# Altium integrated library Linear Technology Power Management Battery Management.IntLib: 626 symbols (part 35 of 56)
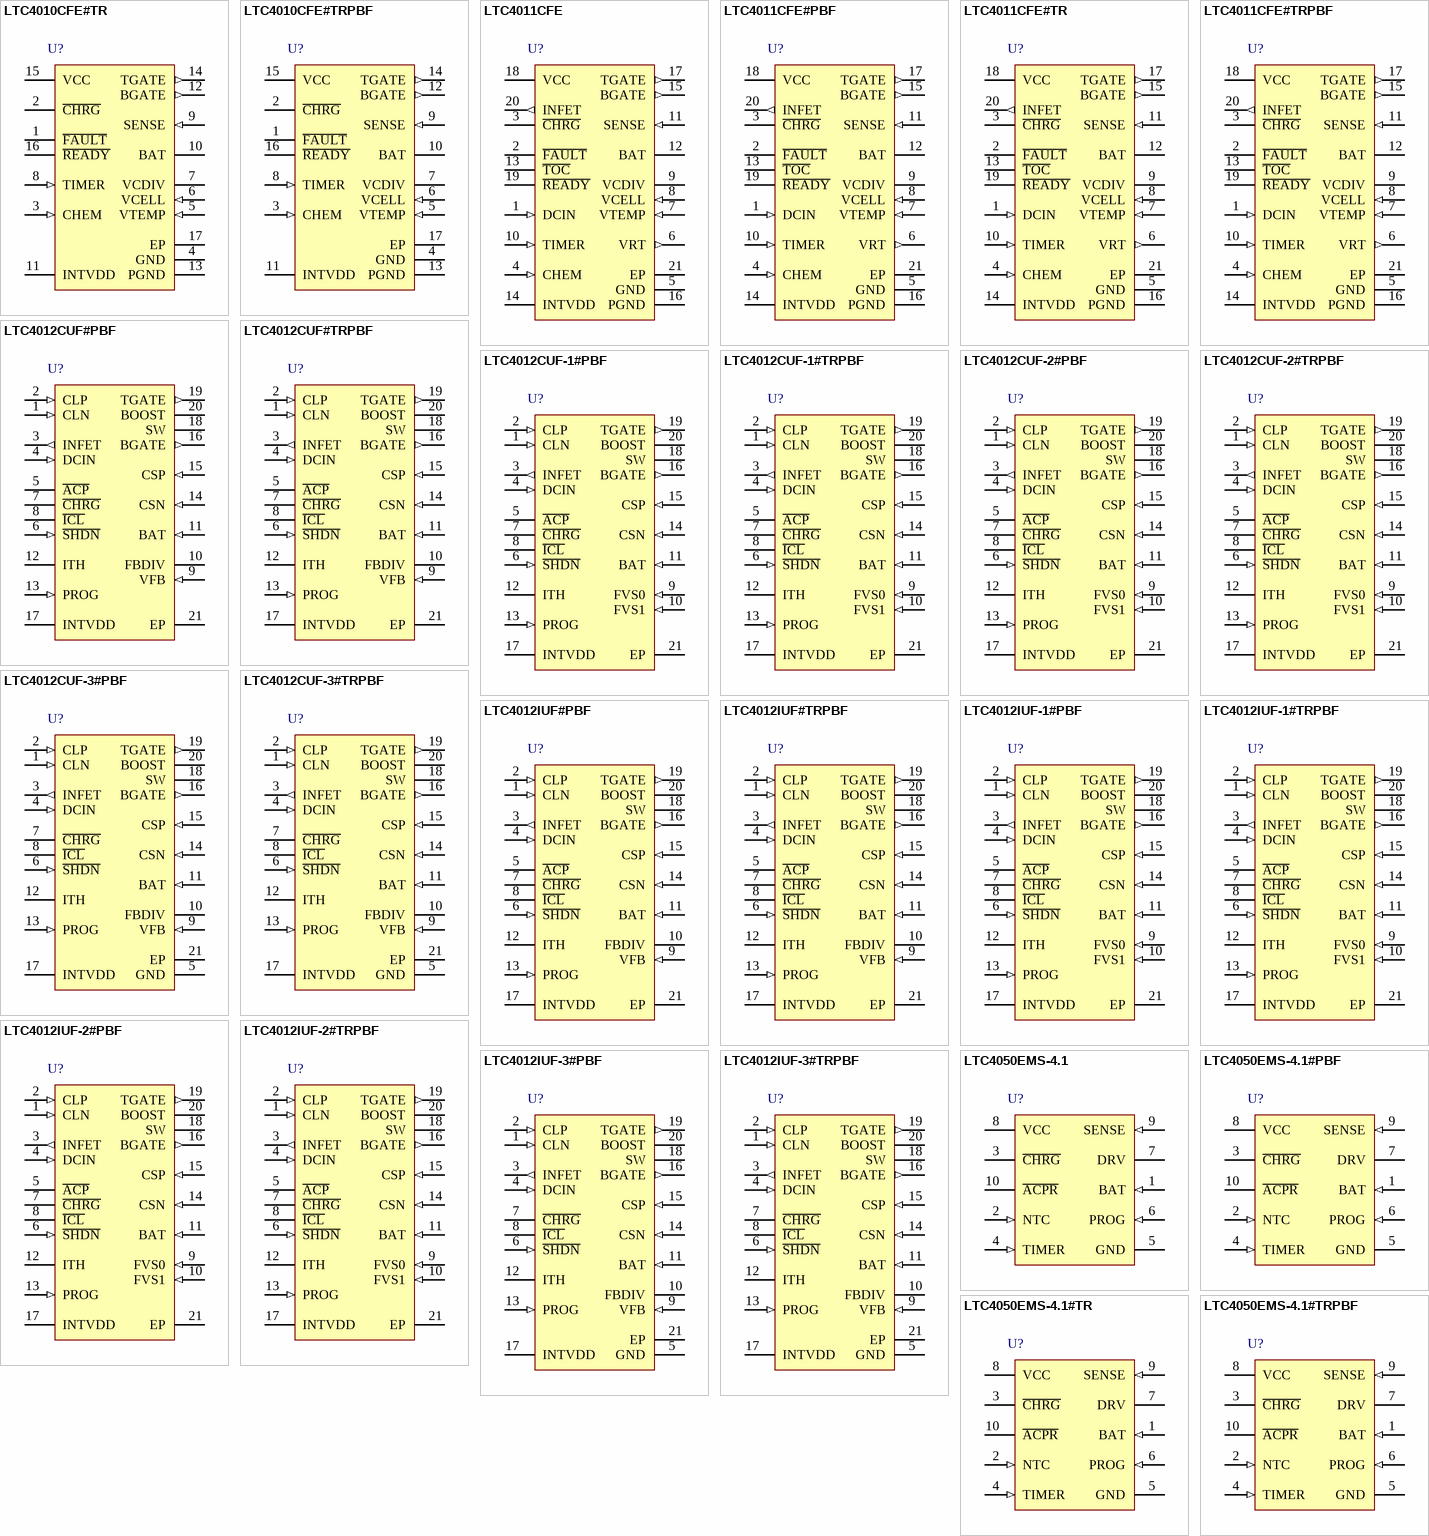
[diagram p56: symbols LTC4010CFE#TR to LTC4050EMS-4.1#TRPBF]

## LTC4010CFE#TRPBF
designator U?
High Efficiency Standalone Nickel Battery Charger, 4.5 to 34 V Vin, 16-pin SOP (FE-16-EPV-BC), 0 to 85 degC, Pb-Free, Tape and Reel; Manufacturer: Linear Technology; PartNumber: LTC4010CFE#TRPBF; Battery Chemistry: NiCd, NiMH; Float Voltage: Adj; Max Charge Current(A): 4; Number of Cells: 1 to 16; Type of Charger: Switching; Vin Max(V): 34; Vin Min(V): 4.5; DatasheetVersion: Rev. B; PackageVersion: Rev. J, 11/2012; PackageReference: FE-16; PackageDescription: 16-Pin Plastic TSSOP, Body 5 x 4.4 mm, Pitch 0.65 mm; Supplier 1: Digi-Key; Supplier Part Number 1: LTC4010CFE#TRPBF-ND; Supplier 2: Newark; Supplier Part Number 2: 58M0828; Packing: Tape and Reel; RoHS: TRUE; Mounting Technology: Surface Mount; ComponentLink1Description: Manufacturer URL; ComponentLink1URL: http://www.linear.com/; ComponentLink2Description: Datasheet; ComponentLink2URL: http://cds.linear.com/docs/en/datasheet/4010fb.pdf; ComponentLink3Description: Package Specification; ComponentLink3URL: http://cds.linear.com/docs/en/packaging/05081663__J_FE16(BC).pdf
footprint LT-FE-16-EPV-BC_N (SOP, 16-Leads, Body 5.1x4.5mm, Pitch 0.65mm, Thermal Pad 3.58x2.94mm, IPC Medium Density)
footprint LT-FE-16-EPV-BC_L (SOP, 16-Leads, Body 5.1x4.5mm, Pitch 0.65mm, Thermal Pad 3.58x2.94mm, IPC High Density)
footprint LT-FE-16-EPV-BC_M (SOP, 16-Leads, Body 5.1x4.5mm, Pitch 0.65mm, Thermal Pad 3.58x2.94mm, IPC Low Density)
pins: 1 ~{FAULT} (oc) "Active-Low Fault Indicator Output. The LTC4010 indicates various battery and internal fault conditions by connecting this pin to GND. Refer to the Operation and Applications Information sections for further details. This (See Datasheet)", 2 ~{CHRG} (oc) "Active-Low Charge Indicator Output. The LTC4010 indicates it is providing charge to the battery by connecting this pin to GND. Refer to the Operation and Applications Information sections for further details. This output is (See Datasheet)", 3 CHEM (in) "Battery Chemistry Selection Input. This pin should be wired to GND to select NiMH fast charge termination parameters. If a voltage greater than 2.85V is applied to this pin, or it is left floating, NiCd parameters are used. (See Datasheet)", 4 GND (power) "Ground. This pin provides a single-point ground for internal references and other critical analog circuits.", 5 VTEMP (in) "Battery Temperature Input. An external 10k NTC thermistor may be connected between VTEMP and GND to provide temperature-based charge qualification and additional fast charge termination control. Charging may also be paused (See Datasheet)", 6 VCELL (in) "Average Single-Cell Voltage Input. An external voltage divider between BAT and VCDIV is attached to this pin to monitor the average single-cell voltage of the battery pack. The LTC4010 uses this information to protect (See Datasheet)", 7 VCDIV (oc) "Average Cell Voltage Resistor Divider Termination. The LTC4010 connects this pin to GND provided the charger is not in shutdown. VCDIV is an open-drain output to GND with an operating voltage range of GND to BAT.", 8 TIMER (in) "Charge Timer Input. A resistor connected between TIMER and GND programs charge cycle timing limits. Refer to the Applications Information section for complete details. Operating voltage range is GND to 1V.", 9 SENSE (in) "Charge Current Sense Input. An external resistor between this input and BAT is used to program charge current. Refer to the Applications Information section for complete details on programming charge current. Operating (See Datasheet)", 10 BAT (power) "Battery Pack Connection. The LTC4010 uses the voltage on this pin to control current sourced from VCC to the battery during charging. Allowable operating voltage range is GND to VCC.", 11 INTVDD (power) "Internal 5V Regulator Output. This pin provides a means of bypassing the internal 5V regulator used to power the BGATE output driver. Typically, power should not be drawn from this pin by the application circuit. Refer to (See Datasheet)", 12 BGATE (out) "External Synchronous N-channel MOSFET Gate Control Output. This output provides gate drive to an optional external NMOS power transistor switch used for synchronous rectification to increase efficiency in the step-down DC/DC (See Datasheet)", 13 PGND (power) "Power Ground. This pin provides a return for switching currents generated by internal LTC4010 circuits. Externally, PGND and GND should be wired together using a very low impedance connection. Refer to PCB Layout (See Datasheet)", 14 TGATE (out) "External P-channel MOSFET Gate Control Output. This output provides gate drive to an external PMOS power transistor switch used in the DC/DC converter. Operating voltage range varies as a function of VCC. Refer to the (See Datasheet)", 15 VCC (power) "Power Input. External diodes normally connect either the DC input power supply or the battery to this pin. Refer to the Applications Information section for further details. Suggested applied voltage range is GND to 34V.", 16 ~{READY} (oc) "Active-Low Ready-to-Charge Output. The LTC4010 connects this pin to GND if proper operating voltages for charging are present. Refer to the Operation section for complete details on charge qualification. This output is (See Datasheet)", 17 EP (power) "This pin provides enhanced thermal properties for the TSSOP. It must be soldered to the PCB copper ground to obtain optimum thermal performance."

## LTC4011CFE
designator U?
High Efficiency Standalone Nickel Battery Charger, 4.5 to 34 V Vin, 20-pin SOP (FE-20-EPV-CB), 0 to 85 degC; Manufacturer: Linear Technology; PartNumber: LTC4011CFE; Battery Chemistry: NiCd, NiMH; Float Voltage: Adj; Max Charge Current(A): 4; Number of Cells: 1 to 16; Type of Charger: Switching; Vin Max(V): 34; Vin Min(V): 4.5; DatasheetVersion: Rev. B; PackageVersion: Rev. I, 05/2011; PackageReference: FE-20; PackageDescription: 20-Pin Plastic TSSOP, Body 6.5 x 4.4 mm, Pitch 0.65 mm; Supplier 1: Digi-Key; Supplier Part Number 1: LTC4011CFE-ND; RoHS: FALSE; Mounting Technology: Surface Mount; ComponentLink1Description: Manufacturer URL; ComponentLink1URL: http://www.linear.com/; ComponentLink2Description: Datasheet; ComponentLink2URL: http://cds.linear.com/docs/en/datasheet/4011fb.pdf; ComponentLink3Description: Package Specification; ComponentLink3URL: http://cds.linear.com/docs/en/packaging/05081663__J_FE20(CB).pdf
footprint LT-FE-20-EPV-CB_N (SOP, 20-Leads, Body 6.6x4.5mm, Pitch 0.65mm, Thermal Pad 3.86x2.74mm, IPC Medium Density)
footprint LT-FE-20-EPV-CB_L (SOP, 20-Leads, Body 6.6x4.5mm, Pitch 0.65mm, Thermal Pad 3.86x2.74mm, IPC High Density)
footprint LT-FE-20-EPV-CB_M (SOP, 20-Leads, Body 6.6x4.5mm, Pitch 0.65mm, Thermal Pad 3.86x2.74mm, IPC Low Density)
pins: 1 DCIN (in) "DC Power Sense Input. The LTC4011 senses voltage on this pin to determine when an external DC power source is present. This input should be isolated from VCC by a blocking diode or PowerPath FET. Refer to the Applications (See Datasheet)", 2 ~{FAULT} (oc) "Active-Low Fault Indicator Output. The LTC4011 indicates various battery and internal fault conditions by connecting this pin to GND. Refer to the Operation and Applications Information sections for further details. This (See Datasheet)", 3 ~{CHRG} (oc) "Active-Low Charge Indicator Output. The LTC4011 indicates it is providing charge to the battery by connecting this pin to GND. Refer to the Operation and Applications Information sections for further details. This output is (See Datasheet)", 4 CHEM (in) "Battery Chemistry Selection Input. This pin should be wired to GND to select NiMH fast charge termination parameters. If a voltage greater than 2.85V is applied to this pin, or it is left floating, NiCd parameters are used. (See Datasheet)", 5 GND (power) "Ground. This pin provides a single-point ground for internal references and other critical analog circuits.", 6 VRT (out) "Thermistor Network Termination Output. The LTC4011 provides 3.3V on this pin to drive an external thermistor network connected between VRT, VTEMP and GND. Additional power should not be drawn from this pin by the host (See Datasheet)", 7 VTEMP (in) "Battery Temperature Input. An external thermistor network may be connected to VTEMP to provide temperature-based charge qualification and additional fast charge termination control. Charging may also be paused by connecting (See Datasheet)", 8 VCELL (in) "Average Single-Cell Voltage Input. An external voltage divider between BAT and VCDIV is attached to this pin to monitor the average single-cell voltage of the battery pack. The LTC4011 uses this information to protect (See Datasheet)", 9 VCDIV (oc) "Average Cell Voltage Resistor Divider Termination. The LTC4011 connects this pin to GND provided the charger is not in shutdown. VCDIV is an open-drain output to GND with an operating voltage range of GND to BAT.", 10 TIMER (in) "Charge Timer Input. A resistor connected between TIMER and GND programs charge cycle timing limits. Refer to the Applications Information section for complete details. Operating voltage range is GND to 1V.", 11 SENSE (in) "Charge Current Sense Input. An external resistor between this input and BAT is used to program charge current. Refer to the Applications Information section for complete details on programming charge current. Operating (See Datasheet)", 12 BAT (power) "Battery Pack Connection. The LTC4011 uses the voltage on this pin to control current sourced from VCC to the battery during charging. Allowable operating voltage range is GND to VCC.", 13 ~{TOC} (oc) "Active-Low Top-Off Charge Indicator Output. The LTC4011 indicates the top-off charge state for NiMH batteries by connecting this pin to GND. Refer to the Operation and Applications Information sections for further details. (See Datasheet)", 14 INTVDD (power) "Internal 5V Regulator Output. This pin provides a means of bypassing the internal 5V regulator used to power the BGATE output driver. Typically, power should not be drawn from this pin by the application circuit. Refer to (See Datasheet)", 15 BGATE (out) "External Synchronous N-channel MOSFET Gate Control Output. This output provides gate drive to an optional external NMOS power transistor switch used for synchronous rectification to increase efficiency in the step-down DC/DC (See Datasheet)", 16 PGND (power) "Power Ground. This pin provides a return for switching currents generated by internal LTC4011 circuits. Externally, PGND and GND should be wired together using a very low impedance connection. Refer to PCB Layout (See Datasheet)", 17 TGATE (out) "External P-channel MOSFET Gate Control Output. This output provides gate drive to an external PMOS power transistor switch used in the DC/DC converter. Operating voltage range varies as a function of VCC. Refer to the (See Datasheet)", 18 VCC (power) "Power Input. External PowerPath control circuits normally connect either the DC input power supply or the battery to this pin. Refer to the Applications Information section for further details. Suggested applied voltage (See Datasheet)", 19 ~{READY} (oc) "Active-Low Ready-to-Charge Output. The LTC4011 connects this pin to GND if proper operating voltages for charging are present. Refer to the Operation section for complete details on charge qualification. This output is (See Datasheet)", 20 INFET (out) "PowerPath Control Output. For very low dropout applications, this output may be used to drive the gate of an input PMOS pass transistor connected between the DC input (DCIN) and the raw system supply rail (VCC). INFET is (See Datasheet)", 21 EP (power) "This pin provides enhanced thermal properties for the TSSOP. It must be soldered to the PCB copper ground to obtain optimum thermal performance."

## LTC4011CFE#PBF
designator U?
High Efficiency Standalone Nickel Battery Charger, 4.5 to 34 V Vin, 20-pin SOP (FE-20-EPV-CB), 0 to 85 degC, Pb-Free; Manufacturer: Linear Technology; PartNumber: LTC4011CFE#PBF; Battery Chemistry: NiCd, NiMH; Float Voltage: Adj; Max Charge Current(A): 4; Number of Cells: 1 to 16; Type of Charger: Switching; Vin Max(V): 34; Vin Min(V): 4.5; DatasheetVersion: Rev. B; PackageVersion: Rev. I, 05/2011; PackageReference: FE-20; PackageDescription: 20-Pin Plastic TSSOP, Body 6.5 x 4.4 mm, Pitch 0.65 mm; Supplier 1: Digi-Key; Supplier Part Number 1: LTC4011CFE#PBF-ND; Supplier 2: Farnell; Supplier Part Number 2: 1273984; Supplier 3: Newark; Supplier Part Number 3: 58M0830; RoHS: TRUE; Mounting Technology: Surface Mount; ComponentLink1Description: Manufacturer URL; ComponentLink1URL: http://www.linear.com/; ComponentLink2Description: Datasheet; ComponentLink2URL: http://cds.linear.com/docs/en/datasheet/4011fb.pdf; ComponentLink3Description: Package Specification; ComponentLink3URL: http://cds.linear.com/docs/en/packaging/05081663__J_FE20(CB).pdf
footprint LT-FE-20-EPV-CB_N (SOP, 20-Leads, Body 6.6x4.5mm, Pitch 0.65mm, Thermal Pad 3.86x2.74mm, IPC Medium Density)
footprint LT-FE-20-EPV-CB_L (SOP, 20-Leads, Body 6.6x4.5mm, Pitch 0.65mm, Thermal Pad 3.86x2.74mm, IPC High Density)
footprint LT-FE-20-EPV-CB_M (SOP, 20-Leads, Body 6.6x4.5mm, Pitch 0.65mm, Thermal Pad 3.86x2.74mm, IPC Low Density)
pins: 1 DCIN (in) "DC Power Sense Input. The LTC4011 senses voltage on this pin to determine when an external DC power source is present. This input should be isolated from VCC by a blocking diode or PowerPath FET. Refer to the Applications (See Datasheet)", 2 ~{FAULT} (oc) "Active-Low Fault Indicator Output. The LTC4011 indicates various battery and internal fault conditions by connecting this pin to GND. Refer to the Operation and Applications Information sections for further details. This (See Datasheet)", 3 ~{CHRG} (oc) "Active-Low Charge Indicator Output. The LTC4011 indicates it is providing charge to the battery by connecting this pin to GND. Refer to the Operation and Applications Information sections for further details. This output is (See Datasheet)", 4 CHEM (in) "Battery Chemistry Selection Input. This pin should be wired to GND to select NiMH fast charge termination parameters. If a voltage greater than 2.85V is applied to this pin, or it is left floating, NiCd parameters are used. (See Datasheet)", 5 GND (power) "Ground. This pin provides a single-point ground for internal references and other critical analog circuits.", 6 VRT (out) "Thermistor Network Termination Output. The LTC4011 provides 3.3V on this pin to drive an external thermistor network connected between VRT, VTEMP and GND. Additional power should not be drawn from this pin by the host (See Datasheet)", 7 VTEMP (in) "Battery Temperature Input. An external thermistor network may be connected to VTEMP to provide temperature-based charge qualification and additional fast charge termination control. Charging may also be paused by connecting (See Datasheet)", 8 VCELL (in) "Average Single-Cell Voltage Input. An external voltage divider between BAT and VCDIV is attached to this pin to monitor the average single-cell voltage of the battery pack. The LTC4011 uses this information to protect (See Datasheet)", 9 VCDIV (oc) "Average Cell Voltage Resistor Divider Termination. The LTC4011 connects this pin to GND provided the charger is not in shutdown. VCDIV is an open-drain output to GND with an operating voltage range of GND to BAT.", 10 TIMER (in) "Charge Timer Input. A resistor connected between TIMER and GND programs charge cycle timing limits. Refer to the Applications Information section for complete details. Operating voltage range is GND to 1V.", 11 SENSE (in) "Charge Current Sense Input. An external resistor between this input and BAT is used to program charge current. Refer to the Applications Information section for complete details on programming charge current. Operating (See Datasheet)", 12 BAT (power) "Battery Pack Connection. The LTC4011 uses the voltage on this pin to control current sourced from VCC to the battery during charging. Allowable operating voltage range is GND to VCC.", 13 ~{TOC} (oc) "Active-Low Top-Off Charge Indicator Output. The LTC4011 indicates the top-off charge state for NiMH batteries by connecting this pin to GND. Refer to the Operation and Applications Information sections for further details. (See Datasheet)", 14 INTVDD (power) "Internal 5V Regulator Output. This pin provides a means of bypassing the internal 5V regulator used to power the BGATE output driver. Typically, power should not be drawn from this pin by the application circuit. Refer to (See Datasheet)", 15 BGATE (out) "External Synchronous N-channel MOSFET Gate Control Output. This output provides gate drive to an optional external NMOS power transistor switch used for synchronous rectification to increase efficiency in the step-down DC/DC (See Datasheet)", 16 PGND (power) "Power Ground. This pin provides a return for switching currents generated by internal LTC4011 circuits. Externally, PGND and GND should be wired together using a very low impedance connection. Refer to PCB Layout (See Datasheet)", 17 TGATE (out) "External P-channel MOSFET Gate Control Output. This output provides gate drive to an external PMOS power transistor switch used in the DC/DC converter. Operating voltage range varies as a function of VCC. Refer to the (See Datasheet)", 18 VCC (power) "Power Input. External PowerPath control circuits normally connect either the DC input power supply or the battery to this pin. Refer to the Applications Information section for further details. Suggested applied voltage (See Datasheet)", 19 ~{READY} (oc) "Active-Low Ready-to-Charge Output. The LTC4011 connects this pin to GND if proper operating voltages for charging are present. Refer to the Operation section for complete details on charge qualification. This output is (See Datasheet)", 20 INFET (out) "PowerPath Control Output. For very low dropout applications, this output may be used to drive the gate of an input PMOS pass transistor connected between the DC input (DCIN) and the raw system supply rail (VCC). INFET is (See Datasheet)", 21 EP (power) "This pin provides enhanced thermal properties for the TSSOP. It must be soldered to the PCB copper ground to obtain optimum thermal performance."

## LTC4011CFE#TR
designator U?
High Efficiency Standalone Nickel Battery Charger, 4.5 to 34 V Vin, 20-pin SOP (FE-20-EPV-CB), 0 to 85 degC, Tape and Reel; Manufacturer: Linear Technology; PartNumber: LTC4011CFE#TR; Battery Chemistry: NiCd, NiMH; Float Voltage: Adj; Max Charge Current(A): 4; Number of Cells: 1 to 16; Type of Charger: Switching; Vin Max(V): 34; Vin Min(V): 4.5; DatasheetVersion: Rev. B; PackageVersion: Rev. I, 05/2011; PackageReference: FE-20; PackageDescription: 20-Pin Plastic TSSOP, Body 6.5 x 4.4 mm, Pitch 0.65 mm; Supplier 1: Digi-Key; Supplier Part Number 1: LTC4011CFE#TR-ND; Packing: Tape and Reel; RoHS: FALSE; Mounting Technology: Surface Mount; ComponentLink1Description: Manufacturer URL; ComponentLink1URL: http://www.linear.com/; ComponentLink2Description: Datasheet; ComponentLink2URL: http://cds.linear.com/docs/en/datasheet/4011fb.pdf; ComponentLink3Description: Package Specification; ComponentLink3URL: http://cds.linear.com/docs/en/packaging/05081663__J_FE20(CB).pdf
footprint LT-FE-20-EPV-CB_N (SOP, 20-Leads, Body 6.6x4.5mm, Pitch 0.65mm, Thermal Pad 3.86x2.74mm, IPC Medium Density)
footprint LT-FE-20-EPV-CB_L (SOP, 20-Leads, Body 6.6x4.5mm, Pitch 0.65mm, Thermal Pad 3.86x2.74mm, IPC High Density)
footprint LT-FE-20-EPV-CB_M (SOP, 20-Leads, Body 6.6x4.5mm, Pitch 0.65mm, Thermal Pad 3.86x2.74mm, IPC Low Density)
pins: 1 DCIN (in) "DC Power Sense Input. The LTC4011 senses voltage on this pin to determine when an external DC power source is present. This input should be isolated from VCC by a blocking diode or PowerPath FET. Refer to the Applications (See Datasheet)", 2 ~{FAULT} (oc) "Active-Low Fault Indicator Output. The LTC4011 indicates various battery and internal fault conditions by connecting this pin to GND. Refer to the Operation and Applications Information sections for further details. This (See Datasheet)", 3 ~{CHRG} (oc) "Active-Low Charge Indicator Output. The LTC4011 indicates it is providing charge to the battery by connecting this pin to GND. Refer to the Operation and Applications Information sections for further details. This output is (See Datasheet)", 4 CHEM (in) "Battery Chemistry Selection Input. This pin should be wired to GND to select NiMH fast charge termination parameters. If a voltage greater than 2.85V is applied to this pin, or it is left floating, NiCd parameters are used. (See Datasheet)", 5 GND (power) "Ground. This pin provides a single-point ground for internal references and other critical analog circuits.", 6 VRT (out) "Thermistor Network Termination Output. The LTC4011 provides 3.3V on this pin to drive an external thermistor network connected between VRT, VTEMP and GND. Additional power should not be drawn from this pin by the host (See Datasheet)", 7 VTEMP (in) "Battery Temperature Input. An external thermistor network may be connected to VTEMP to provide temperature-based charge qualification and additional fast charge termination control. Charging may also be paused by connecting (See Datasheet)", 8 VCELL (in) "Average Single-Cell Voltage Input. An external voltage divider between BAT and VCDIV is attached to this pin to monitor the average single-cell voltage of the battery pack. The LTC4011 uses this information to protect (See Datasheet)", 9 VCDIV (oc) "Average Cell Voltage Resistor Divider Termination. The LTC4011 connects this pin to GND provided the charger is not in shutdown. VCDIV is an open-drain output to GND with an operating voltage range of GND to BAT.", 10 TIMER (in) "Charge Timer Input. A resistor connected between TIMER and GND programs charge cycle timing limits. Refer to the Applications Information section for complete details. Operating voltage range is GND to 1V.", 11 SENSE (in) "Charge Current Sense Input. An external resistor between this input and BAT is used to program charge current. Refer to the Applications Information section for complete details on programming charge current. Operating (See Datasheet)", 12 BAT (power) "Battery Pack Connection. The LTC4011 uses the voltage on this pin to control current sourced from VCC to the battery during charging. Allowable operating voltage range is GND to VCC.", 13 ~{TOC} (oc) "Active-Low Top-Off Charge Indicator Output. The LTC4011 indicates the top-off charge state for NiMH batteries by connecting this pin to GND. Refer to the Operation and Applications Information sections for further details. (See Datasheet)", 14 INTVDD (power) "Internal 5V Regulator Output. This pin provides a means of bypassing the internal 5V regulator used to power the BGATE output driver. Typically, power should not be drawn from this pin by the application circuit. Refer to (See Datasheet)", 15 BGATE (out) "External Synchronous N-channel MOSFET Gate Control Output. This output provides gate drive to an optional external NMOS power transistor switch used for synchronous rectification to increase efficiency in the step-down DC/DC (See Datasheet)", 16 PGND (power) "Power Ground. This pin provides a return for switching currents generated by internal LTC4011 circuits. Externally, PGND and GND should be wired together using a very low impedance connection. Refer to PCB Layout (See Datasheet)", 17 TGATE (out) "External P-channel MOSFET Gate Control Output. This output provides gate drive to an external PMOS power transistor switch used in the DC/DC converter. Operating voltage range varies as a function of VCC. Refer to the (See Datasheet)", 18 VCC (power) "Power Input. External PowerPath control circuits normally connect either the DC input power supply or the battery to this pin. Refer to the Applications Information section for further details. Suggested applied voltage (See Datasheet)", 19 ~{READY} (oc) "Active-Low Ready-to-Charge Output. The LTC4011 connects this pin to GND if proper operating voltages for charging are present. Refer to the Operation section for complete details on charge qualification. This output is (See Datasheet)", 20 INFET (out) "PowerPath Control Output. For very low dropout applications, this output may be used to drive the gate of an input PMOS pass transistor connected between the DC input (DCIN) and the raw system supply rail (VCC). INFET is (See Datasheet)", 21 EP (power) "This pin provides enhanced thermal properties for the TSSOP. It must be soldered to the PCB copper ground to obtain optimum thermal performance."

## LTC4011CFE#TRPBF
designator U?
High Efficiency Standalone Nickel Battery Charger, 4.5 to 34 V Vin, 20-pin SOP (FE-20-EPV-CB), 0 to 85 degC, Pb-Free, Tape and Reel; Manufacturer: Linear Technology; PartNumber: LTC4011CFE#TRPBF; Battery Chemistry: NiCd, NiMH; Float Voltage: Adj; Max Charge Current(A): 4; Number of Cells: 1 to 16; Type of Charger: Switching; Vin Max(V): 34; Vin Min(V): 4.5; DatasheetVersion: Rev. B; PackageVersion: Rev. I, 05/2011; PackageReference: FE-20; PackageDescription: 20-Pin Plastic TSSOP, Body 6.5 x 4.4 mm, Pitch 0.65 mm; Supplier 1: Digi-Key; Supplier Part Number 1: LTC4011CFE#TRPBFTR-ND; Supplier 2: Digi-Key; Supplier Part Number 2: LTC4011CFE#TRPBFCT-ND; Supplier 3: Digi-Key; Supplier Part Number 3: LTC4011CFE#TRPBFDKR-ND; Supplier 4: Newark; Supplier Part Number 4: 58M0832; Packing: Tape and Reel; RoHS: TRUE; Mounting Technology: Surface Mount; ComponentLink1Description: Manufacturer URL; ComponentLink1URL: http://www.linear.com/; ComponentLink2Description: Datasheet; ComponentLink2URL: http://cds.linear.com/docs/en/datasheet/4011fb.pdf; ComponentLink3Description: Package Specification; ComponentLink3URL: http://cds.linear.com/docs/en/packaging/05081663__J_FE20(CB).pdf
footprint LT-FE-20-EPV-CB_N (SOP, 20-Leads, Body 6.6x4.5mm, Pitch 0.65mm, Thermal Pad 3.86x2.74mm, IPC Medium Density)
footprint LT-FE-20-EPV-CB_L (SOP, 20-Leads, Body 6.6x4.5mm, Pitch 0.65mm, Thermal Pad 3.86x2.74mm, IPC High Density)
footprint LT-FE-20-EPV-CB_M (SOP, 20-Leads, Body 6.6x4.5mm, Pitch 0.65mm, Thermal Pad 3.86x2.74mm, IPC Low Density)
pins: 1 DCIN (in) "DC Power Sense Input. The LTC4011 senses voltage on this pin to determine when an external DC power source is present. This input should be isolated from VCC by a blocking diode or PowerPath FET. Refer to the Applications (See Datasheet)", 2 ~{FAULT} (oc) "Active-Low Fault Indicator Output. The LTC4011 indicates various battery and internal fault conditions by connecting this pin to GND. Refer to the Operation and Applications Information sections for further details. This (See Datasheet)", 3 ~{CHRG} (oc) "Active-Low Charge Indicator Output. The LTC4011 indicates it is providing charge to the battery by connecting this pin to GND. Refer to the Operation and Applications Information sections for further details. This output is (See Datasheet)", 4 CHEM (in) "Battery Chemistry Selection Input. This pin should be wired to GND to select NiMH fast charge termination parameters. If a voltage greater than 2.85V is applied to this pin, or it is left floating, NiCd parameters are used. (See Datasheet)", 5 GND (power) "Ground. This pin provides a single-point ground for internal references and other critical analog circuits.", 6 VRT (out) "Thermistor Network Termination Output. The LTC4011 provides 3.3V on this pin to drive an external thermistor network connected between VRT, VTEMP and GND. Additional power should not be drawn from this pin by the host (See Datasheet)", 7 VTEMP (in) "Battery Temperature Input. An external thermistor network may be connected to VTEMP to provide temperature-based charge qualification and additional fast charge termination control. Charging may also be paused by connecting (See Datasheet)", 8 VCELL (in) "Average Single-Cell Voltage Input. An external voltage divider between BAT and VCDIV is attached to this pin to monitor the average single-cell voltage of the battery pack. The LTC4011 uses this information to protect (See Datasheet)", 9 VCDIV (oc) "Average Cell Voltage Resistor Divider Termination. The LTC4011 connects this pin to GND provided the charger is not in shutdown. VCDIV is an open-drain output to GND with an operating voltage range of GND to BAT.", 10 TIMER (in) "Charge Timer Input. A resistor connected between TIMER and GND programs charge cycle timing limits. Refer to the Applications Information section for complete details. Operating voltage range is GND to 1V.", 11 SENSE (in) "Charge Current Sense Input. An external resistor between this input and BAT is used to program charge current. Refer to the Applications Information section for complete details on programming charge current. Operating (See Datasheet)", 12 BAT (power) "Battery Pack Connection. The LTC4011 uses the voltage on this pin to control current sourced from VCC to the battery during charging. Allowable operating voltage range is GND to VCC.", 13 ~{TOC} (oc) "Active-Low Top-Off Charge Indicator Output. The LTC4011 indicates the top-off charge state for NiMH batteries by connecting this pin to GND. Refer to the Operation and Applications Information sections for further details. (See Datasheet)", 14 INTVDD (power) "Internal 5V Regulator Output. This pin provides a means of bypassing the internal 5V regulator used to power the BGATE output driver. Typically, power should not be drawn from this pin by the application circuit. Refer to (See Datasheet)", 15 BGATE (out) "External Synchronous N-channel MOSFET Gate Control Output. This output provides gate drive to an optional external NMOS power transistor switch used for synchronous rectification to increase efficiency in the step-down DC/DC (See Datasheet)", 16 PGND (power) "Power Ground. This pin provides a return for switching currents generated by internal LTC4011 circuits. Externally, PGND and GND should be wired together using a very low impedance connection. Refer to PCB Layout (See Datasheet)", 17 TGATE (out) "External P-channel MOSFET Gate Control Output. This output provides gate drive to an external PMOS power transistor switch used in the DC/DC converter. Operating voltage range varies as a function of VCC. Refer to the (See Datasheet)", 18 VCC (power) "Power Input. External PowerPath control circuits normally connect either the DC input power supply or the battery to this pin. Refer to the Applications Information section for further details. Suggested applied voltage (See Datasheet)", 19 ~{READY} (oc) "Active-Low Ready-to-Charge Output. The LTC4011 connects this pin to GND if proper operating voltages for charging are present. Refer to the Operation section for complete details on charge qualification. This output is (See Datasheet)", 20 INFET (out) "PowerPath Control Output. For very low dropout applications, this output may be used to drive the gate of an input PMOS pass transistor connected between the DC input (DCIN) and the raw system supply rail (VCC). INFET is (See Datasheet)", 21 EP (power) "This pin provides enhanced thermal properties for the TSSOP. It must be soldered to the PCB copper ground to obtain optimum thermal performance."

## LTC4012CUF#PBF
designator U?
High Efficiency, Multi-Chemistry Battery Charger with PowerPath Control, 6 to 28 V Vin, 20-pin QFN (UF-20), 0 to 85 degC, Pb-Free; Manufacturer: Linear Technology; PartNumber: LTC4012CUF#PBF; Battery Chemistry: Li-Ion, Li-Polymer, LiFePO4, NiCd, NiMH, Lead Acid; Charge Termination: Microcontroller; Float Voltage: Adj; Max Charge Current(A): 12; Number of Cells: 1 to 6 (Li), 2 to 18 (Ni); Type of Charger: Switching; Vin Max(V): 28; Vin Min(V): 6; DatasheetVersion: Rev. A; PackageVersion: Rev. A, 10/2010; PackageReference: UF20; PackageDescription: 20-Pin Plastic QFN, Body 4 x 4 mm, Pitch 0.5 mm; Supplier 1: Digi-Key; Supplier Part Number 1: LTC4012CUF#PBF-ND; Supplier 2: Farnell; Supplier Part Number 2: 2295375; Supplier 3: Newark; Supplier Part Number 3: 24R8701; RoHS: TRUE; Mounting Technology: Surface Mount; Code_JEDEC: MO-220; ComponentLink1Description: Manufacturer URL; ComponentLink1URL: http://www.linear.com/; ComponentLink2Description: Datasheet; ComponentLink2URL: http://cds.linear.com/docs/en/datasheet/4012fa.pdf; ComponentLink3Description: Package Specification; ComponentLink3URL: http://cds.linear.com/docs/en/packaging/QFN_20_05-08-1710.pdf
footprint LT-UF-20_N (QFN, 20-Leads, Body 4.1x4.1mm, Pitch 0.5mm, Thermal Pad 2.45x2.45mm, IPC Medium Density)
footprint LT-UF-20_L (QFN, 20-Leads, Body 4.1x4.1mm, Pitch 0.5mm, Thermal Pad 2.45x2.45mm, IPC High Density)
footprint LT-UF-20_M (QFN, 20-Leads, Body 4.1x4.1mm, Pitch 0.5mm, Thermal Pad 2.45x2.45mm, IPC Low Density)
pins: 1 CLN (in) "Adapter Input Current Limit Negative Input. The LTC4012 senses voltage on this pin to determine if less charge current should be sourced to limit total input current. The threshold is set 100mV below the CLP pin. An external (See Datasheet)", 2 CLP (in) "Adapter Input Current Limit Positive Input. The LTC4012 also draws power from this pin, including a small amount for some shutdown functions. Operating voltage range is GND to 28V.", 3 INFET (out) "PowerPath Control Output. This output drives the gate of a PMOS pass transistor connected between the DC input (DCIN) and the raw system supply rail (CLP) to maintain a forward voltage of 25mV when a DC input source is (See Datasheet)", 4 DCIN (in) "DC Sense Input. One of two voltage sense inputs to the internal PowerPath controller (the other input to the controller is CLP). This input is usually supplied from an input DC power source. Operating voltage ranges from GND (See Datasheet)", 5 ~{ACP} (hiz) "Active-Low AC Adapter Present Indicator Output. This open-drain output pulls to GND when adequate AC adapter (DCIN) voltage is present. This output should be left floating if not used.", 6 ~{SHDN} (in) "Active-low Shutdown Input. Driving S\H\D\N\ below 300mV unconditionally forces the LTC4012 into the shutdown state. This input has a 40kohm internal pulldown to GND. Operating voltage range is GND to INTVDD.", 7 ~{CHRG} (hiz) "Active-Low Charge Indicator Output. This open-drain output provides three levels of information about charge status using a strong pull-down, 25uA weak pull-down or high impedance. Refer to the Operation and Applications (See Datasheet)", 8 ~{ICL} (oc) "Active-Low Input Current Limit Indicator Output. This open-drain output pulls to GND when the charge current is reduced because of AC adapter input current limiting. This output should be left floating if not used.", 9 VFB (in) "Battery Voltage Feedback Input. An external resistor divider between FBDIV and GND with the center tap connected to VFB programs the charger output voltage. In constant voltage mode, this pin is nominally at 1.2085V. Refer (See Datasheet)", 10 FBDIV (oc) "Battery Voltage Feedback Resistor Divider Source. The LTC4012 connects this pin to BAT when charging is in progress. FBDIV is an opendrain PFET output to BAT with an operating voltage range of GND to BAT.", 11 BAT (in) "Battery Pack Connection. The LTC4012 uses the voltage on this pin to control PWM operation when charging. Operating voltage range is GND to CLN.", 12 ITH "PWM Control Voltage and Compensation Node. The LTC4012 develops a voltage on this pin to control cycle-by-cycle peak inductor current. An external R-C network connected to ITH provides PWM loop compensation. Refer to the (See Datasheet)", 13 PROG (in) "Charge Current Programming and Monitoring Pin. An external resistance connected between PROG and GND, along with the current sense and PWM input resistors, programs the maximum charge current. The voltage on this pin can (See Datasheet)", 14 CSN (in) "Charge Current Sense Negative Input. Place an external input resistor (RIN, Figure 1) between this pin and the negative side of the charge current sense resistor. Operating voltage ranges from (BAT - 50mV) to (BAT + 200mV).", 15 CSP (in) "Charge Current Sense Positive Input. Place an external input resistor (RIN, Figure 1) between this pin and the positive side of the charge current sense resistor. Operating voltage ranges from (BAT - 50mV) to (BAT + 200mV).", 16 BGATE (out) "External Synchronous NFET Gate Control Output. This output provides gate drive to an external NMOS power transistor switch used for synchronous rectification to increase efficiency in the step-down DC/DC converter. Operating (See Datasheet)", 17 INTVDD (power) "Internal 5V Regulator Output. This pin provides a means of bypassing the internal 5V regulator used to power the LTC4012 PWM FET drivers. This supply shuts down when the LTC4012 shuts down. Refer to the Application (See Datasheet)", 18 SW "PWM Switch Node. The LTC4012 uses the voltage on this pin as the source reference for its topside NFET (PWM switch) driver. Refer to the Applications Information section for additional PCB layout suggestions related to this (See Datasheet)", 19 TGATE (out) "External NFET Switch Gate Control Output. This output provides gate drive to an external NMOS power transistor switch used in the DC/DC converter. Operating voltage range is GND to (CLN + 5V).", 20 BOOST "TGATE Driver Supply Input. A bootstrap capacitor is returned to this pin from a charge network connected to SW and INTVDD. Refer to the Applications Information section for complete details on circuit topology and component (See Datasheet)", 21 EP (power) "Ground. The package paddle provides a single-point ground for the internal voltage reference and other critical LTC4012 circuits. It must be soldered to a suitable PCB copper ground pad for proper electrical operation and to (See Datasheet)"

## LTC4012CUF#TRPBF
designator U?
High Efficiency, Multi-Chemistry Battery Charger with PowerPath Control, 6 to 28 V Vin, 20-pin QFN (UF-20), 0 to 85 degC, Pb-Free, Tape and Reel; Manufacturer: Linear Technology; PartNumber: LTC4012CUF#TRPBF; Battery Chemistry: Li-Ion, Li-Polymer, LiFePO4, NiCd, NiMH, Lead Acid; Charge Termination: Microcontroller; Float Voltage: Adj; Max Charge Current(A): 12; Number of Cells: 1 to 6 (Li), 2 to 18 (Ni); Type of Charger: Switching; Vin Max(V): 28; Vin Min(V): 6; DatasheetVersion: Rev. A; PackageVersion: Rev. A, 10/2010; PackageReference: UF20; PackageDescription: 20-Pin Plastic QFN, Body 4 x 4 mm, Pitch 0.5 mm; Supplier 1: Digi-Key; Supplier Part Number 1: LTC4012CUF#TRPBF-ND; Packing: Tape and Reel; RoHS: TRUE; Mounting Technology: Surface Mount; Code_JEDEC: MO-220; ComponentLink1Description: Manufacturer URL; ComponentLink1URL: http://www.linear.com/; ComponentLink2Description: Datasheet; ComponentLink2URL: http://cds.linear.com/docs/en/datasheet/4012fa.pdf; ComponentLink3Description: Package Specification; ComponentLink3URL: http://cds.linear.com/docs/en/packaging/QFN_20_05-08-1710.pdf
footprint LT-UF-20_N (QFN, 20-Leads, Body 4.1x4.1mm, Pitch 0.5mm, Thermal Pad 2.45x2.45mm, IPC Medium Density)
footprint LT-UF-20_L (QFN, 20-Leads, Body 4.1x4.1mm, Pitch 0.5mm, Thermal Pad 2.45x2.45mm, IPC High Density)
footprint LT-UF-20_M (QFN, 20-Leads, Body 4.1x4.1mm, Pitch 0.5mm, Thermal Pad 2.45x2.45mm, IPC Low Density)
pins: 1 CLN (in) "Adapter Input Current Limit Negative Input. The LTC4012 senses voltage on this pin to determine if less charge current should be sourced to limit total input current. The threshold is set 100mV below the CLP pin. An external (See Datasheet)", 2 CLP (in) "Adapter Input Current Limit Positive Input. The LTC4012 also draws power from this pin, including a small amount for some shutdown functions. Operating voltage range is GND to 28V.", 3 INFET (out) "PowerPath Control Output. This output drives the gate of a PMOS pass transistor connected between the DC input (DCIN) and the raw system supply rail (CLP) to maintain a forward voltage of 25mV when a DC input source is (See Datasheet)", 4 DCIN (in) "DC Sense Input. One of two voltage sense inputs to the internal PowerPath controller (the other input to the controller is CLP). This input is usually supplied from an input DC power source. Operating voltage ranges from GND (See Datasheet)", 5 ~{ACP} (hiz) "Active-Low AC Adapter Present Indicator Output. This open-drain output pulls to GND when adequate AC adapter (DCIN) voltage is present. This output should be left floating if not used.", 6 ~{SHDN} (in) "Active-low Shutdown Input. Driving S\H\D\N\ below 300mV unconditionally forces the LTC4012 into the shutdown state. This input has a 40kohm internal pulldown to GND. Operating voltage range is GND to INTVDD.", 7 ~{CHRG} (hiz) "Active-Low Charge Indicator Output. This open-drain output provides three levels of information about charge status using a strong pull-down, 25uA weak pull-down or high impedance. Refer to the Operation and Applications (See Datasheet)", 8 ~{ICL} (oc) "Active-Low Input Current Limit Indicator Output. This open-drain output pulls to GND when the charge current is reduced because of AC adapter input current limiting. This output should be left floating if not used.", 9 VFB (in) "Battery Voltage Feedback Input. An external resistor divider between FBDIV and GND with the center tap connected to VFB programs the charger output voltage. In constant voltage mode, this pin is nominally at 1.2085V. Refer (See Datasheet)", 10 FBDIV (oc) "Battery Voltage Feedback Resistor Divider Source. The LTC4012 connects this pin to BAT when charging is in progress. FBDIV is an opendrain PFET output to BAT with an operating voltage range of GND to BAT.", 11 BAT (in) "Battery Pack Connection. The LTC4012 uses the voltage on this pin to control PWM operation when charging. Operating voltage range is GND to CLN.", 12 ITH "PWM Control Voltage and Compensation Node. The LTC4012 develops a voltage on this pin to control cycle-by-cycle peak inductor current. An external R-C network connected to ITH provides PWM loop compensation. Refer to the (See Datasheet)", 13 PROG (in) "Charge Current Programming and Monitoring Pin. An external resistance connected between PROG and GND, along with the current sense and PWM input resistors, programs the maximum charge current. The voltage on this pin can (See Datasheet)", 14 CSN (in) "Charge Current Sense Negative Input. Place an external input resistor (RIN, Figure 1) between this pin and the negative side of the charge current sense resistor. Operating voltage ranges from (BAT - 50mV) to (BAT + 200mV).", 15 CSP (in) "Charge Current Sense Positive Input. Place an external input resistor (RIN, Figure 1) between this pin and the positive side of the charge current sense resistor. Operating voltage ranges from (BAT - 50mV) to (BAT + 200mV).", 16 BGATE (out) "External Synchronous NFET Gate Control Output. This output provides gate drive to an external NMOS power transistor switch used for synchronous rectification to increase efficiency in the step-down DC/DC converter. Operating (See Datasheet)", 17 INTVDD (power) "Internal 5V Regulator Output. This pin provides a means of bypassing the internal 5V regulator used to power the LTC4012 PWM FET drivers. This supply shuts down when the LTC4012 shuts down. Refer to the Application (See Datasheet)", 18 SW "PWM Switch Node. The LTC4012 uses the voltage on this pin as the source reference for its topside NFET (PWM switch) driver. Refer to the Applications Information section for additional PCB layout suggestions related to this (See Datasheet)", 19 TGATE (out) "External NFET Switch Gate Control Output. This output provides gate drive to an external NMOS power transistor switch used in the DC/DC converter. Operating voltage range is GND to (CLN + 5V).", 20 BOOST "TGATE Driver Supply Input. A bootstrap capacitor is returned to this pin from a charge network connected to SW and INTVDD. Refer to the Applications Information section for complete details on circuit topology and component (See Datasheet)", 21 EP (power) "Ground. The package paddle provides a single-point ground for the internal voltage reference and other critical LTC4012 circuits. It must be soldered to a suitable PCB copper ground pad for proper electrical operation and to (See Datasheet)"